# Altium schematic symbol library 474110-E.SchLib: 1 symbol
Pins are listed as number, name and electrical type; pins without a type are passive.

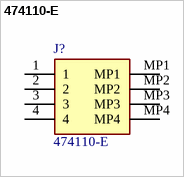
[diagram p0: symbol 474110-E]

## 474110-E
designator J?
PCB Mount Header, Right Angle, Cable-to-Board, 4 Position, 1.27 mm [.05 in] Centerline, Fully Shrouded, Gold (Au), Surface Mount, ERNI MiniBridge; Manufacturer_Name: TE Connectivity; Geometry.Height: 3.48mm; Manufacturer_Part_Number: 474110-E; Mouser Part Number: *; Mouser Price/Stock: *; Arrow Part Number: *; Arrow Price/Stock: *; Datasheet Link: https://www.te.com/commerce/DocumentDelivery/DDEController?Action=showdoc&DocId=Customer+Drawing%7F474110-E%7FC%7Fpdf%7FEnglish%7FENG_CD_474110-E_C.pdf%7F474110-E
footprint 474110E
pins: 1, 2, 3, 4, MP1, MP2, MP3, MP4